# EAGLE library part MA06-1 (library Eagle_Lib_IUT)
PIN HEADER
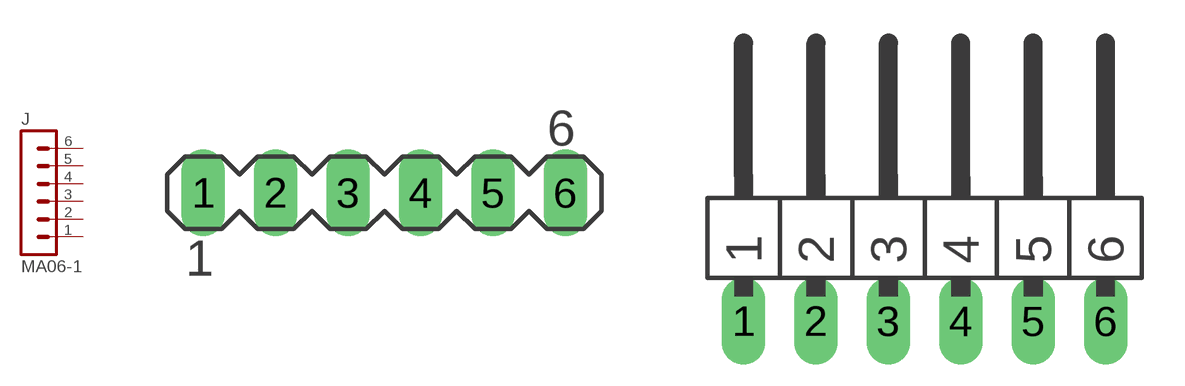
[diagram p6: symbol with the pads of MA06-1; footprints MA06-1, MA06-1W]

Designator prefix J

## MA06-1  [MA06-1]
1  1  pas
2  2  pas
3  3  pas
4  4  pas
5  5  pas
6  6  pas

## MA06-1-90  [MA06-1W]
Pads as for MA06-1

## MA06-1-CMS  [CON_SIL_CMS_6]
Pads as for MA06-1

## Footprint MA06-1 (pad centres in mm)
PIN HEADER
drill 1.016 long: 1 -6.35,0; 2 -3.81,0; 3 -1.27,0; 4 1.27,0; 5 3.81,0; 6 6.35,0

## Footprint MA06-1W (pad centres in mm)
PIN HEADER
drill 1.016 long: 1 -6.35,-2.54; 2 -3.81,-2.54; 3 -1.27,-2.54; 4 1.27,-2.54; 5 3.81,-2.54; 6 6.35,-2.54

## Footprint CON_SIL_CMS_6 (pad centres in mm)
smd 2.54 x 0.889: 1 1.27,1.27; 2 1.27,0; 3 1.27,-1.27; 4 1.27,-2.54; 5 1.27,-3.81; 6 1.27,-5.08